# EAGLE library part 74LS32 (library Library 74LS)
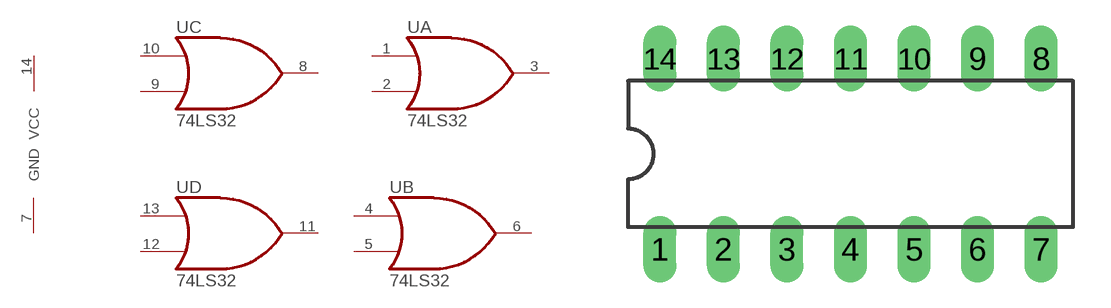
[diagram p2: symbol with the pads of DIO14; footprint DIO14]

Designator prefix -; gates A=74LS32 B=74LS32 C=74LS32 D=74LS32 G$5=POWER

## 74LS32  [DIO14]
1  A:I0  in
2  A:I1  in
3  A:O  out
4  B:I0  in
5  B:I1  in
6  B:O  out
7  G$5:GND
8  C:O  out
9  C:I1  in
10  C:I0  in
11  D:O  out
12  D:I1  in
13  D:I0  in
14  G$5:VCC

## Footprint DIO14 (pad centres in mm)
drill 0.813 long: 1 -12.7,-3.81; 2 -10.16,-3.81; 3 -7.62,-3.81; 4 -5.08,-3.81; 5 -2.54,-3.81; 6 0,-3.81; 7 2.54,-3.81; 8 2.54,3.81; 9 0,3.81; 10 -2.54,3.81; 11 -5.08,3.81; 12 -7.62,3.81; 13 -10.16,3.81; 14 -12.7,3.81